# EAGLE library part TJA1043 (library bytewerk-network)
Highspeed CAN Tranceiver - split - inhibit
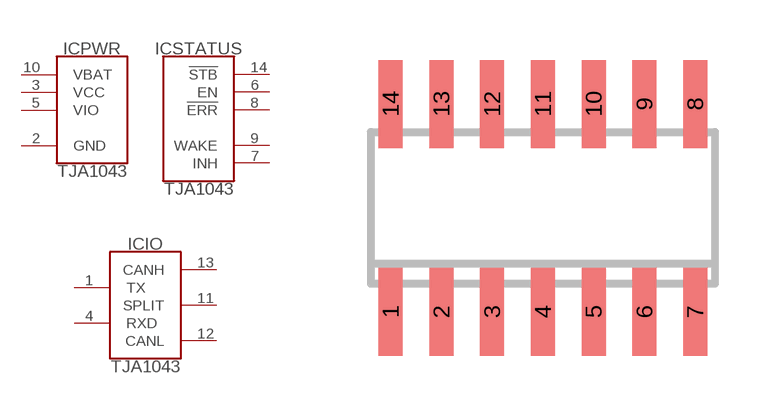
[diagram p7: symbol with the pads of SO14; footprint SO14]

Designator prefix IC; gates IO=TJA1043-IO PWR=TJA1043-PWR STATUS=TJA1043-STATUS

## TJA1043 (MF: NXP; MPN: TJA1043T,118; OC_MOUSER: 771-TJA1043T118)  [SO14]
1  IO:TX  in
2  PWR:GND  pwr
3  PWR:VCC  pwr
4  IO:RXD  out
5  PWR:VIO  pwr
6  STATUS:EN  in
7  STATUS:INH  out
8  STATUS:!ERR!  out
9  STATUS:WAKE  in
10  PWR:VBAT  pwr
11  IO:SPLIT  pas
12  IO:CANL  pas
13  IO:CANH  pas
14  STATUS:!STB!  in

## Footprint SO14 (pad centres in mm)
SMALL OUTLINE INTEGRATED CIRCUIT body 3.9 mm/JEDEC MS-012AC
smd 0.6 x 2.2: 1 -3.81,-2.6; 2 -2.54,-2.6; 3 -1.27,-2.6; 4 0,-2.6; 5 1.27,-2.6; 6 2.54,-2.6; 7 3.81,-2.6; 8 3.81,2.6; 9 2.54,2.6; 10 1.27,2.6; 11 0,2.6; 12 -1.27,2.6; 13 -2.54,2.6; 14 -3.81,2.6